# EAGLE library part 211PC249S0031 (library automotive-Con)
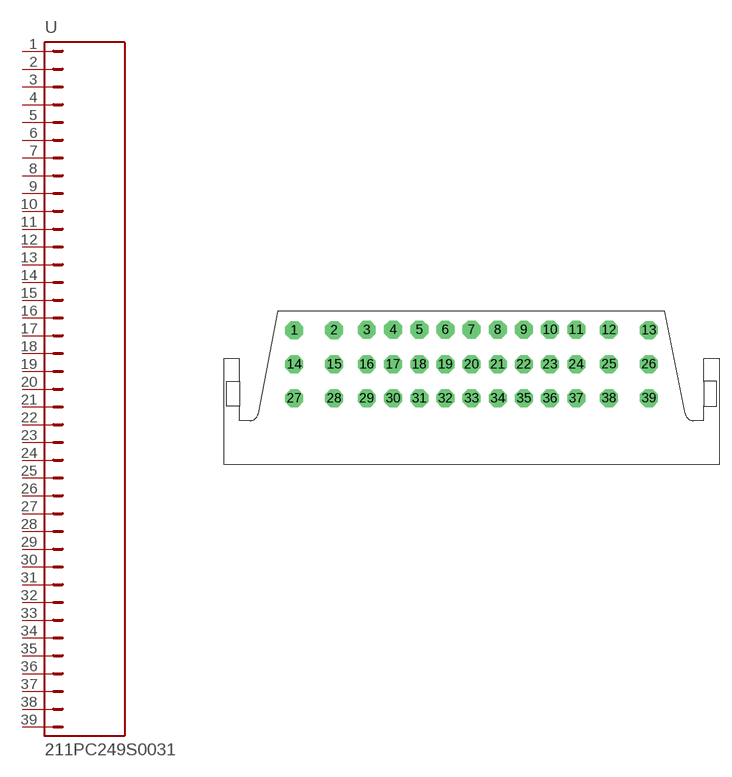
[diagram p1: symbol with the pads of 211PC249S0031; footprint 211PC249S0031]

Designator prefix -

## 211PC249S0031  [211PC249S0031]
1  1  pas
2  2  pas
3  3  pas
4  4  pas
5  5  pas
6  6  pas
7  7  pas
8  8  pas
9  9  pas
10  10  pas
11  11  pas
12  12  pas
13  13  pas
14  14  pas
15  15  pas
16  16  pas
17  17  pas
18  18  pas
19  19  pas
20  20  pas
21  21  pas
22  22  pas
23  23  pas
24  24  pas
25  25  pas
26  26  pas
27  27  pas
28  28  pas
29  29  pas
30  30  pas
31  31  pas
32  32  pas
33  33  pas
34  34  pas
35  35  pas
36  36  pas
37  37  pas
38  38  pas
39  39  pas

## Footprint 211PC249S0031 (pad centres in mm)
drill 1.524 octagon: 1 -21.565,18.11; 2 -16.485,18.136; 3 -12.348,18.161; 4 -8.995,18.186; 5 -5.668,18.186; 6 -2.34,18.186; 7 0.987,18.186; 8 4.314,18.186; 9 7.642,18.186; 10 10.969,18.186; 11 14.297,18.186; 12 18.466,18.161; 13 23.546,18.136; 14 -21.565,13.792; 15 -16.485,13.792; 16 -12.348,13.792; 17 -8.995,13.792; 18 -5.668,13.792; 19 -2.34,13.792; 20 0.987,13.792; 21 4.314,13.792; 22 7.642,13.792; 23 10.969,13.792; 24 14.297,13.792; 25 18.466,13.818; 26 23.546,13.818; 27 -21.565,9.474; 28 -16.485,9.474; 29 -12.348,9.474; 30 -8.995,9.474; 31 -5.668,9.474; 32 -2.34,9.474; 33 0.987,9.474; 34 4.314,9.474; 35 7.642,9.474; 36 10.969,9.474; 37 14.297,9.474; 38 18.466,9.5; 39 23.546,9.5